# EAGLE library part 1X6 (library headers(.05in))
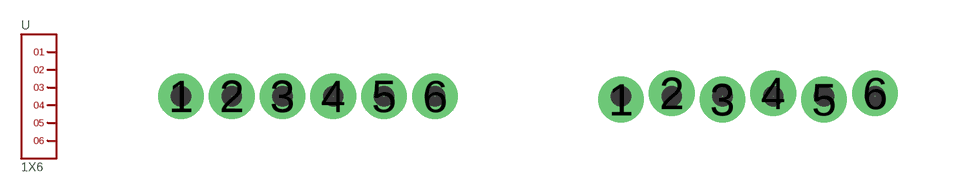
[diagram p0: symbol with the pads of 1X6; footprints 1X6, 1X6.LOCK]

Designator prefix -

## 1X6  [1X6]
1  1
2  2
3  3
4  4
5  5
6  6

## 1X6.LOCK  [1X6.LOCK]
Pads as for 1X6

## 1X6.SIDE  [1X6.SIDE]
Pads as for 1X6

## Footprint 1X6 (pad centres in mm)
drill 0.635 pad 1.016: 1 0,0; 2 1.27,0; 3 2.54,0; 4 3.81,0; 5 5.08,0; 6 6.35,0

## Footprint 1X6.LOCK (pad centres in mm)
drill 0.635 pad 1.016: 1 0,-0.08; 2 1.27,0.08; 3 2.54,-0.08; 4 3.81,0.08; 5 5.08,-0.08; 6 6.35,0.08

## Footprint 1X6.SIDE (pad centres in mm)
smd 1.905 x 2.54: 1 0,-2.159; 2 2.54,-2.159; 3 5.08,-2.159; 4 7.62,-2.159; 5 10.16,-2.159; 6 12.7,-2.159